# Altium schematic symbol library RTL2832U.SchLib: 1 symbol
Pins are listed as number, name and electrical type; pins without a type are passive.

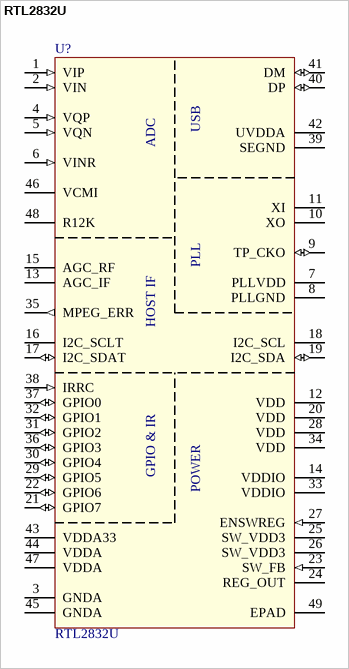
[diagram p0: symbol RTL2832U]

## RTL2832U
designator U?
DVB-T COFDM DEMODULATOR+USB 2.0; Value: RTL2832U
footprint QFN-48-6X6 (QFN, 48-Leads, Body 6,00x6,00mm, Pitch 0,40mm, Thermal Pad 4,30x4,30mm, IPC Medium Density)
pins: 1 VIP (in), 2 VIN (in), 3 GNDA (power), 4 VQP (in), 5 VQN (in), 6 VINR (in) "Low Speed 7-bit ADC Single-Ended Input", 7 PLLVDD, 8 PLLGND, 9 TP_CKO (io), 10 XO, 11 XI, 12 VDD (power), 13 AGC_IF (oc), 14 VDDIO (power), 15 AGC_RF (oc), 16 I2C_SCLT (oc), 17 I2C_SDAT (io), 18 I2C_SCL (oc), 19 I2C_SDA (io), 20 VDD (power), 21 GPIO7 (io), 22 GPIO6 (io), 23 SW_FB (in), 24 REG_OUT (power), 25 SW_VDD3 (power), 26 SW_VDD3 (power), 27 ENSWREG (in), 28 VDD (power), 29 GPIO5 (io), 30 GPIO4 (io), 31 GPIO2 (io), 32 GPIO1 (io), 33 VDDIO (power), 34 VDD (power), 35 MPEG_ERR (out) "MPEG error output", 36 GPIO3 (io), 37 GPIO0 (io), 38 IRRC (in), 39 SEGND (power), 40 DP (io), 41 DM (io), 42 UVDDA (power), 43 VDDA33 (power), 44 VDDA (power), 45 GNDA (power), 46 VCMI, 47 VDDA (power), 48 R12K, 49 EPAD (power)
text: USB; ADC; PLL; HOST IF; GPIO & IR; POWER